# EAGLE library part RJ12-JACK (library display-r2)
6p6c modular jack
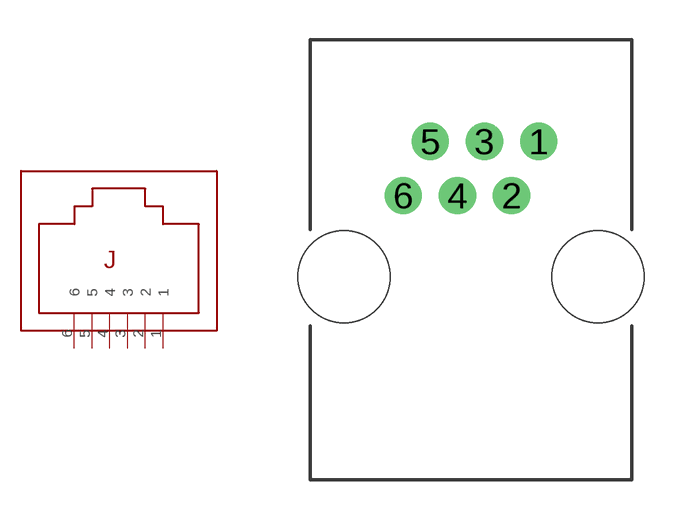
[diagram p4: symbol with the pads of RJE01-660-01; footprint RJE01-660-01]

Designator prefix J

## RJ12-JACK-RJE01  [RJE01-660-01]
1  1
2  2
3  3
4  4
5  5
6  6

## Footprint RJE01-660-01 (pad centres in mm)
RJ12 tab up 6p6c modular jack https://www.amphenolcanada.com/ProductSearch/drawings/AC/RJE016X001.pdf
drill 0.889: 1 2.54,5.08; 2 1.524,3.048; 3 0.508,5.08; 4 -0.508,3.048; 5 -1.524,5.08; 6 -2.54,3.048
hole 3.454 at -4.763,0
hole 3.454 at 4.763,0